# EAGLE library part MA20-2_SH (library con-edge-100)
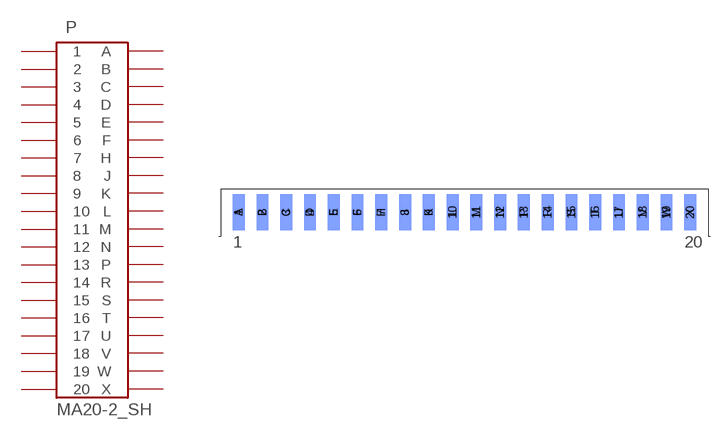
[diagram p5: symbol with the pads of MA20-2_SHORT; footprint MA20-2_SHORT]

Designator prefix P

## MA20-2_SH  [MA20-2_SHORT]
1  1  pas
2  2  pas
3  3  pas
4  4  pas
5  5  pas
6  6  pas
7  7  pas
8  8  pas
9  9  pas
10  10  pas
11  11  pas
12  12  pas
13  13  pas
14  14  pas
15  15  pas
16  16  pas
17  17  pas
18  18  pas
19  19  pas
20  20  pas
A  A  pas
B  B  pas
C  C  pas
D  D  pas
E  E  pas
F  F  pas
H  H  pas
J  J  pas
K  K  pas
L  L  pas
M  M  pas
N  N  pas
P  P  pas
R  R  pas
S  S  pas
T  T  pas
U  U  pas
V  V  pas
W  W  pas
X  X  pas

## Footprint MA20-2_SHORT (pad centres in mm)
smd 1.27 x 3.81: 1 -24.13,0; 2 -21.59,0; 3 -19.05,0; 4 -16.51,0; 5 -13.97,0; 6 -11.43,0; 7 -8.89,0; 8 -6.35,0; 9 -3.81,0; 10 -1.27,0; 11 1.27,0; 12 3.81,0; 13 6.35,0; 14 8.89,0; 15 11.43,0; 16 13.97,0; 17 16.51,0; 18 19.05,0; 19 21.59,0; 20 24.13,0
smd 1.27 x 3.81 bottom: A -24.13,0; B -21.59,0; C -19.05,0; D -16.51,0; E -13.97,0; F -11.43,0; H -8.89,0; J -6.35,0; K -3.81,0; L -1.27,0; M 1.27,0; N 3.81,0; P 6.35,0; R 8.89,0; S 11.43,0; T 13.97,0; U 16.51,0; V 19.05,0; W 21.59,0; X 24.13,0